# EAGLE library part SD-CARD (library SD-CARD)
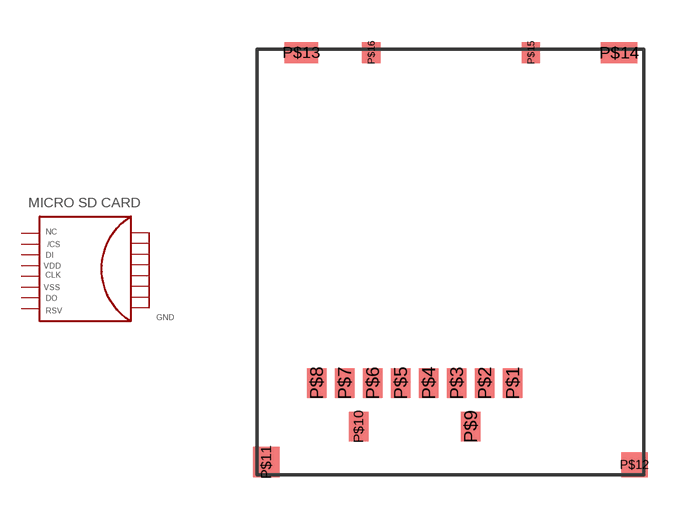
[diagram p0: symbol with the pads of SD-CARD; footprint SD-CARD]

Designator prefix -

## SD-CARD  [SD-CARD]
P$1  P$1
P$2  P$2
P$3  P$3
P$4  P$4
P$5  P$5
P$6  P$6
P$7  P$7
P$8  P$8
P$9  P$9
P$10  P$10
P$11  P$11
P$12  P$12
P$13  P$13
P$14  P$14
P$15  P$15
P$16  P$16

## Footprint SD-CARD (pad centres in mm)
smd 0.7 x 1.05: P$1 2.225,3.275; P$2 1.225,3.275; P$3 0.225,3.275; P$4 -0.775,3.275; P$5 -1.775,3.275; P$6 -2.775,3.275; P$7 -3.775,3.275; P$8 -4.775,3.275; P$9 0.725,1.725; P$10 -3.275,1.725
smd 0.95 x 1.1: P$11 -6.575,0.45
smd 0.95 x 0.9: P$12 6.575,0.35
smd 1.2 x 0.75: P$13 -5.325,15.075
smd 1.3 x 0.75: P$14 6.025,15.075
smd 0.65 x 0.75: P$15 2.875,15.075; P$16 -2.825,15.075